# Altium footprint library SPECCY2010_Library.PcbLib: 23 footprints (part 2 of 2)
Each footprint in its own frame and in the unit in brackets; x right, y up, seen from the top. Pads: shape width x height; smd on the part's side, far side on the other; paste and mask are expansions set on the pad; w line width, h text height; cw(c..) or ccw(c..) is an arc to the next point about the centre after c.
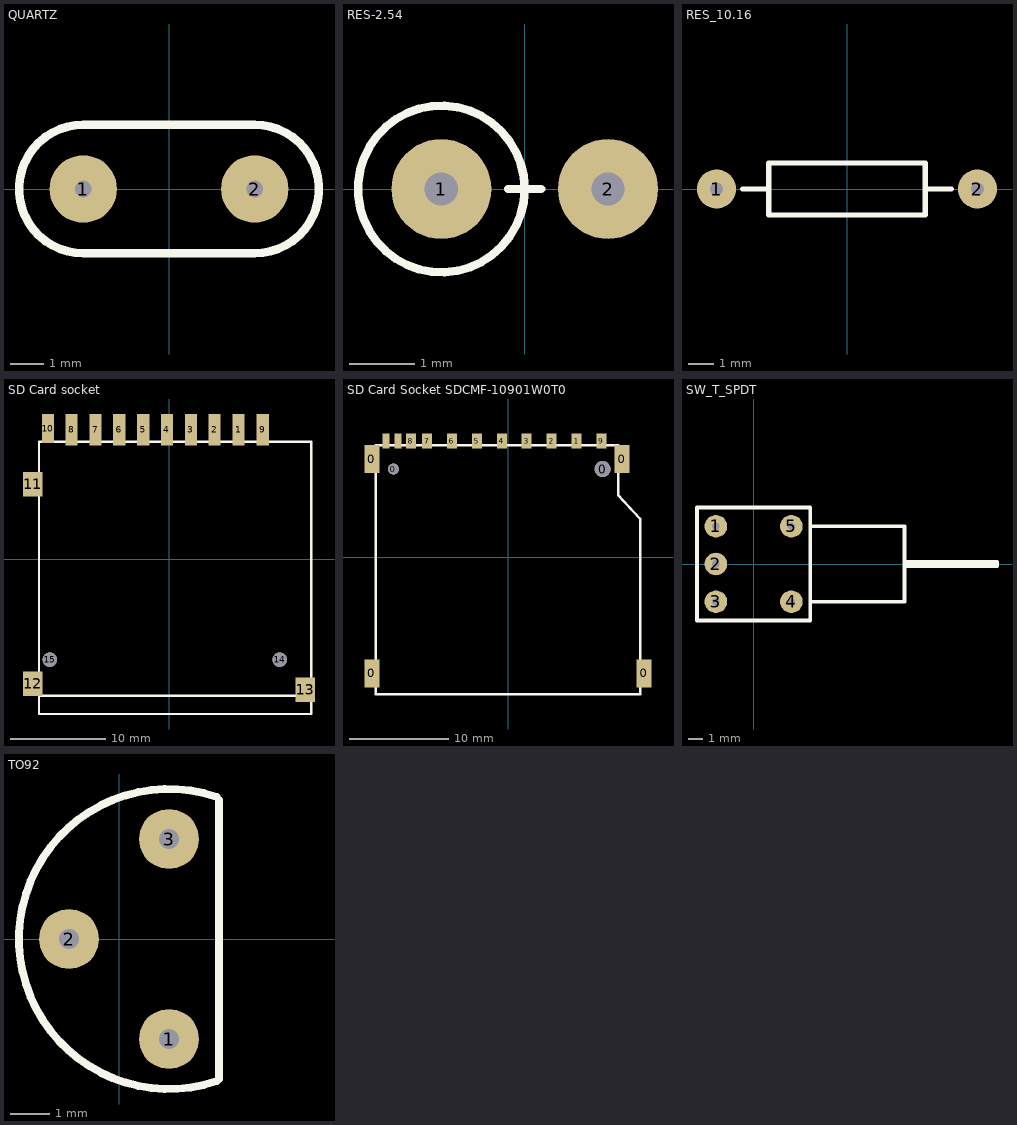
[diagram p1: the footprints below, top view; thin cyan lines are the x and y axes]

## QUARTZ [mm] "Кварц"
height 7.62
pads (2):
  round 2 hole 0.5: 1(-2.54,0) 2(2.54,0)
Top Overlay:
  lines w0.254: -2.54,-1.905 cw(c-2.54,0) -2.54,1.905 2.54,1.905 cw(c2.54,0) 2.54,-1.905 -2.54,-1.905
3D body: height 3.5, standoff -4, extent -5.573,-2.337 5.777,2.313

## RES-2.54 [mil] "Резистор вертикально"
height 100
pads (2):
  round 60 hole 20: 1(-50,0) 2(50,0)
Top Overlay:
  circle w5: c-50,0 r50
  lines w5: -10,0 10,0
3D body: height 287.32, standoff -57.17, extent -86.3,-36.23 59.85,36.24

## RES_10.16 [mil] "Резистор, Thru-Hole; 2 Leads; 0.4 in Pin Spacing"
height 80
pads (2):
  round 60 hole 20: 1(-200,0) 2(200,0)
Top Overlay:
  lines w7.87: -160,0 -120,0 ; 120,0 160,0 ; -120,-40 -120,40 120,40 120,-40 -120,-40
3D body: height 115.5, standoff -100, extent -212,-45.5 212,45.5

## SD Card socket [mil] "Разъем SD карты"
height 100
pads (15):
  rect 50x130 smd: 1(287.5,535) 2(188.5,535) 3(90.5,535) 4(-8.5,535) 5(-106.5,535) 6(-205.5,535) 7(-303.5,535) 8(-402.5,535) 9(387.5,535)
  rect 50x120 smd: 10(-500.5,540)
  rect 80x100 smd: 11(-562.5,310) 12(-562.5,-515) 13(562.5,-540)
  round 60 hole 60: 14(457.5,-415) 15(-492.5,-415)
Top Overlay:
  lines w10: -537.5,-565 587.5,-565 ; -537.5,-640 -537.5,485 587.5,485 587.5,-640 ; -537.5,-640 587.5,-640 ; -537.5,-640 587.5,-640
3D body: height 118.05, standoff -39.43, extent -547.24,-797.52 578.75,600.11

## SD Card Socket SDCMF-10901W0T0 [mm] "Разъем SD карточки"
height 1.27
pads (17):
  rect 1.5x2.8 smd: 0(-13.65,-11.65) 0(-13.65,9.85) 0(11.45,9.85) 0(13.65,-11.65)
  round 1.1 hole 1.1 unplated: 0(-11.5,8.85)
  round 1.6 hole 1.6: 0(9.5,8.85)
  rect 1x1.5 smd: 1(6.875,11.65) 2(4.375,11.65) 3(1.875,11.65) 4(-0.625,11.65) 5(-3.125,11.65) 6(-5.625,11.65) 7(-8.125,11.65) 8(-9.75,11.65) 9(9.375,11.65)
  rect 0.7x1.5 smd: 10(-11.05,11.65) 11(-12.25,11.65)
Top Overlay:
  lines w0.254: -13.25,-13.75 13.25,-13.75 13.25,3.86 11.05,6.25 11.05,11.25 -13.25,11.25 -13.25,-13.75
3D body: height 3, standoff -1, extent -14.24,-22.997 14.36,12.503

## SW_T_SPDT [mil] "Кнопка питания на плату"
height 200
pads (5):
  round 60 hole 20: 1(-100,100) 2(-100,0) 3(-100,-100) 4(100,-100) 5(100,100)
Top Overlay:
  lines w10: 150,-100 200,-100 400,-100 400,100 150,100 ; 400,-5 645,-5 645,5 400,5 ; -150,-150 -150,150 150,150 150,-150 -150,-150
3D body: height 287.8, standoff -118, extent -110.93,-175 688.12,171

## TO92 [mil] "TO, Flat Index; 3 In-Line, Axial Leads; Body Dia. 4.8mm; Leads 0.48 x 0.5 mm (max)"
height 209.84
pads (3):
  round 60 hole 20: 1(50,-100) 2(-50,0) 3(50,100)
Top Overlay:
  lines w7.87: 97.43,-142.3 cw(c50,0) 97.43,142.3 ; 100,-140 100,139
3D body: height 314.96, standoff -118.98, extent -60.61,-109.74 110.24,109.74